# EAGLE library part 1X18 (library teelsys-0.2)
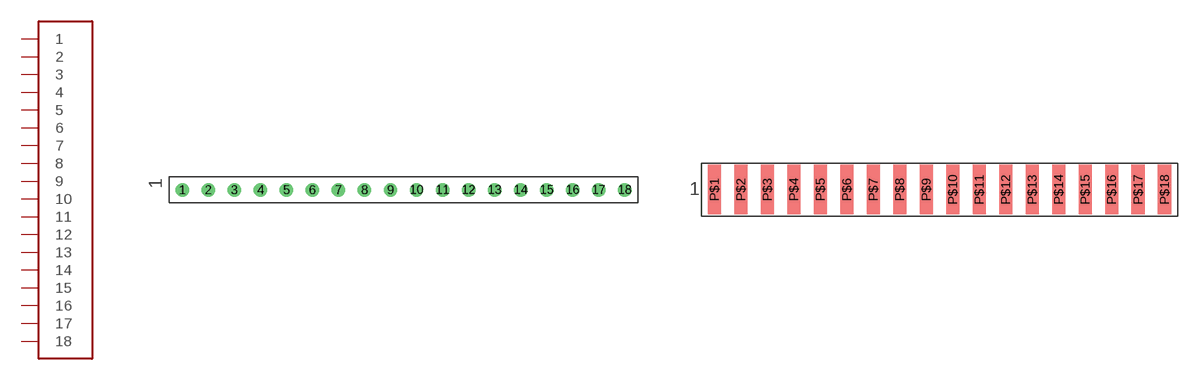
[diagram p1: symbol with the pads of 1X18; footprints 1X18, 1X18_PADS]

Designator prefix J

## 1X18  [1X18]
1  1
2  2
3  3
4  4
5  5
6  6
7  7
8  8
9  9
10  10
11  11
12  12
13  13
14  14
15  15
16  16
17  17
18  18

## 1X18SOLDER_PADS  [1X18_PADS]
P$1  1
P$2  2
P$3  3
P$4  4
P$5  5
P$6  6
P$7  7
P$8  8
P$9  9
P$10  10
P$11  11
P$12  12
P$13  13
P$14  14
P$15  15
P$16  16
P$17  17
P$18  18

## Footprint 1X18 (pad centres in mm)
drill 0.8: 1 -21.59,0; 2 -19.05,0; 3 -16.51,0; 4 -13.97,0; 5 -11.43,0; 6 -8.89,0; 7 -6.35,0; 8 -3.81,0; 9 -1.27,0; 10 1.27,0; 11 3.81,0; 12 6.35,0; 13 8.89,0; 14 11.43,0; 15 13.97,0; 16 16.51,0; 17 19.05,0; 18 21.59,0

## Footprint 1X18_PADS (pad centres in mm)
smd 1.27 x 4.763: P$1 -21.59,1.27; P$2 -19.05,1.27; P$3 -16.51,1.27; P$4 -13.97,1.27; P$5 -11.43,1.27; P$6 -8.89,1.27; P$7 -6.35,1.27; P$8 -3.81,1.27; P$9 -1.27,1.27; P$10 1.27,1.27; P$11 3.81,1.27; P$12 6.35,1.27; P$13 8.89,1.27; P$14 11.43,1.27; P$15 13.97,1.27; P$16 16.51,1.27; P$17 19.05,1.27; P$18 21.59,1.27